# Altium schematic symbol library Capacitors-Electrolytic.SchLib: 5 symbols
Pins are listed as number, name and electrical type; pins without a type are passive.

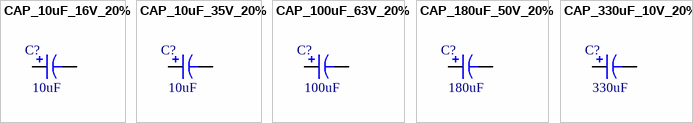
[diagram p0: symbols CAP_10uF_16V_20% to CAP_330uF_10V_20%]

## CAP_10uF_16V_20%
designator C?, comment value 10uF  (hidden comment: 10uF 16V)
10uF 16V 20%; PartNumber: UMT1C100MCD2; Manufacturer: Nichicon; Mounting Technology: Through Hole; Voltage: 16V; Tolerance: 20%
footprint CAP-ELECTROLYTIC[3X5]
pins: 1, 2

## CAP_10uF_35V_20%
designator C?, comment value 10uF  (hidden comment: 10uF 35V)
10uF 35V 20%; PartNumber: USW1V100MDD; Manufacturer: Nichicon; Mounting Technology: Through Hole; Voltage: 35V; Tolerance: 20%
footprint CAP-ELECTROLYTIC[4x7]
pins: 1, 2

## CAP_100uF_63V_20%
designator C?, comment value 100uF  (hidden comment: 100uF 63V)
100uF 63V 20%; PartNumber: PCR1J101MCL1GS; Manufacturer: Nichicon; Mounting Technology: Surface Mount; PackageReference: 1H; PackageDescription: 10x12.7mm; Voltage: 63V; Tolerance: 20%
footprint CAP-ELECTROLYTIC[10.0x12.6]
pins: 1, 2

## CAP_180uF_50V_20%
designator C?, comment value 180uF  (hidden comment: 180uF 50V)
180uF 50V 20%; PartNumber: PCR1H181MCL1GS; Manufacturer: Nichicon; Mounting Technology: Surface Mount; PackageReference: 1H; PackageDescription: 10x12.7mm; Voltage: 50V; Tolerance: 20%
footprint CAP-ELECTROLYTIC[10.0x12.6]
pins: 1, 2

## CAP_330uF_10V_20%
designator C?, comment value 330uF  (hidden comment: 330uF 10V)
330uF 10V 20%; PartNumber: APXA100ARA331MHC0G; Manufacturer: United Chemi-Con; Mounting Technology: Surface Mount; PackageReference: HC0; PackageDescription: 8.3x8.3mm; Voltage: 10V; Tolerance: 20%
footprint CAP-ELECTROLYTIC[8.3x8.3]
pins: 1, 2